# Altium integrated library SS8550.IntLib: 1 symbol
Pins are listed as number, name and electrical type; pins without a type are passive.

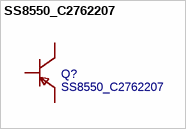
[diagram p0: symbol SS8550_C2762207]

## SS8550_C2762207
designator Q?
BOM_Manufacturer: 晶导微电子; BOM_Manufacturer Part: SS8550; Contributor: LCSC; BOM_Supplier: LCSC; BOM_Supplier Part: C2762207; BOM_JLCPCB Part Class: Extended Part; spicePre: Q; spiceSymbolName: SS8550_C2762207
footprint SOT-23-3_L2.9-W1.3-P1.90-LS2.4-BR
pins: 1 B, 2 E, 3 C